# Altium footprint library CPU_Memory.PcbLib: 7 footprints
Each footprint in its own frame and in the unit in brackets; x right, y up, seen from the top. Pads: shape width x height; smd on the part's side, far side on the other; paste and mask are expansions set on the pad; w line width, h text height; cw(c..) or ccw(c..) is an arc to the next point about the centre after c.
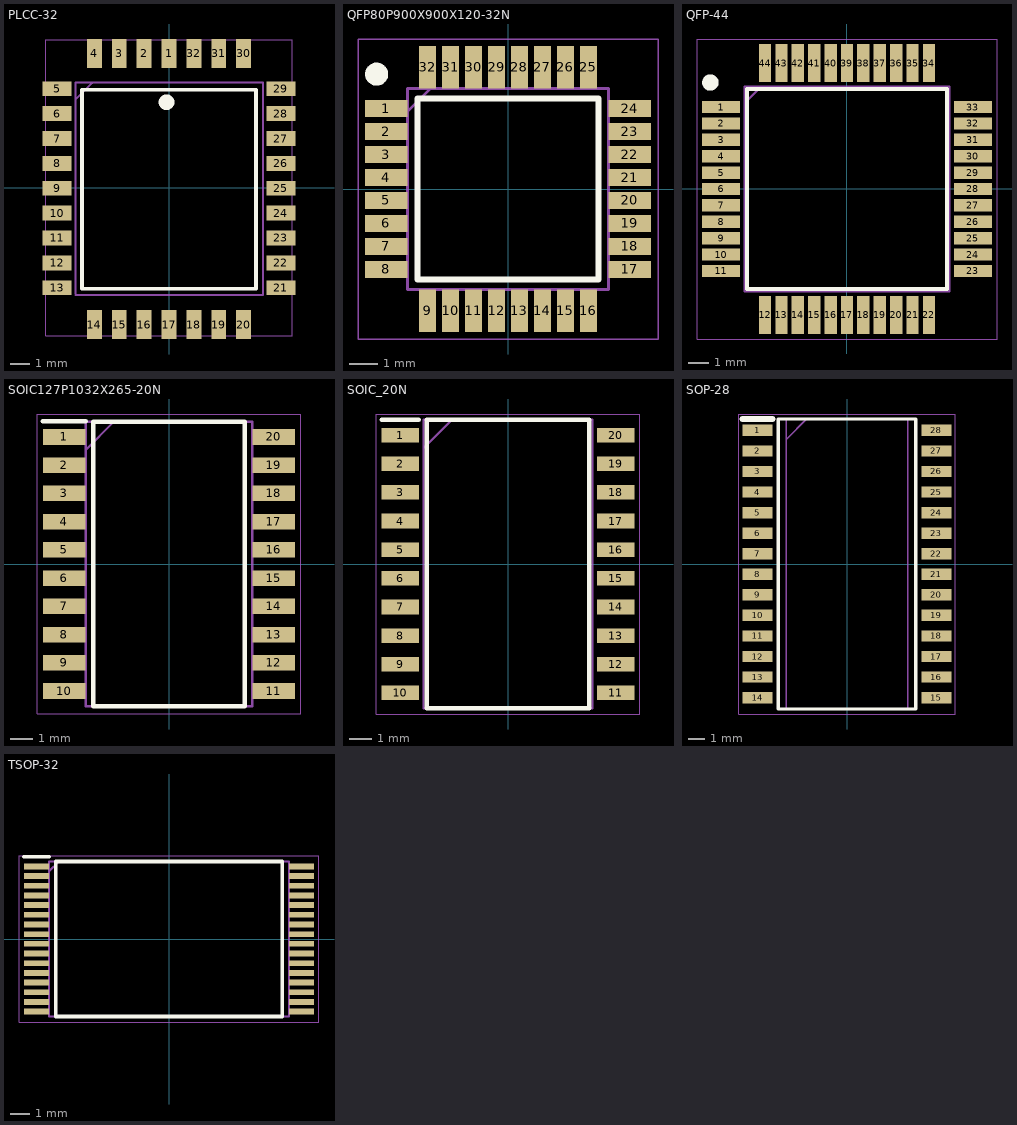
[diagram p0: the footprints below, top view; thin cyan lines are the x and y axes]

## PLCC-32 [mil]
pads (32):
  rect 30x58.07 smd: 1(0,270) 2(-50,270) 3(-100,270) 4(-150,270) 14(-150,-275) 15(-100,-275) 16(-50,-275) 17(0,-275) 18(50,-275) 19(100,-275) 20(150,-275) 30(150,270) 31(100,270) 32(50,270)
  rect 58.07x30 smd: 5(-225,199) 6(-225,149) 7(-225,99) 8(-225,49) 9(-225,-1) 10(-225,-51) 11(-225,-101) 12(-225,-151) 13(-225,-201) 21(225,-201) 22(225,-151) 23(225,-101) 24(225,-51) 25(225,-1) 26(225,49) 27(225,99) 28(225,149) 29(225,199)
Top Overlay:
  circle w15.75: c-5,172 r7.87
  lines w7.87: -175,-203 -175,197 175,197 175,-203 -175,-203
Mechanical 13:
  lines w3.94: -188,-216 187,-216 ; -188,-213 -188,212 189,212 189,-216 ; -188,177 -154,211
Mechanical 15:
  lines w1: -247.5,-297.5 247.5,-297.5 247.5,297.5 -247.5,297.5 -247.5,-297.5
3D body "SST39SF040-55-4C-NHE-T.stp": height 140, standoff 0.07, extent -245,-296 245,294

## QFP80P900X900X120-32N [mm]
pads (32):
  rect 1.475x0.6 smd: 1(-4.238,2.8) 2(-4.238,2) 3(-4.238,1.2) 4(-4.238,0.4) 5(-4.238,-0.4) 6(-4.238,-1.2) 7(-4.238,-2) 8(-4.238,-2.8) 17(4.238,-2.8) 18(4.238,-2) 19(4.238,-1.2) 20(4.238,-0.4) 21(4.238,0.4) 22(4.238,1.2) 23(4.238,2) 24(4.238,2.8)
  rect 0.6x1.475 smd: 9(-2.8,-4.238) 10(-2,-4.238) 11(-1.2,-4.238) 12(-0.4,-4.238) 13(0.4,-4.238) 14(1.2,-4.238) 15(2,-4.238) 16(2.8,-4.238) 25(2.8,4.238) 26(2,4.238) 27(1.2,4.238) 28(0.4,4.238) 29(-0.4,4.238) 30(-1.2,4.238) 31(-2,4.238) 32(-2.8,4.238)
Top Overlay:
  circle w0.4: c-4.575,4 r0.2
  lines w0.2: -3.15,-3.15 -3.15,3.15 3.15,3.15 3.15,-3.15 -3.15,-3.15
Mechanical 13:
  lines w0.1: -3.5,2.7 -2.7,3.5 ; -3.5,-3.5 -3.5,3.5 3.5,3.5 3.5,-3.5 -3.5,-3.5
Mechanical 15:
  lines w0.05: -5.225,-5.225 -5.225,5.225 5.225,5.225 5.225,-5.225 -5.225,-5.225
3D body "AVR64DD32-I_PT___MULTI-VOLTAGE_I_O.stp": height 1.2, standoff 0, extent -4.5,-4.5 4.5,4.5
3D body "AVR64DD32-I_PT___MULTI-VOLTAGE_I_O.stp": height 1.2, standoff 0, extent -4.5,-4.5 4.5,4.5

## QFP-44 [mm]
pads (44):
  rect 1.85x0.6 smd: 1(-6.15,4) 2(-6.15,3.2) 3(-6.15,2.4) 4(-6.15,1.6) 5(-6.15,0.8) 6(-6.15,0) 7(-6.15,-0.8) 8(-6.15,-1.6) 9(-6.15,-2.4) 10(-6.15,-3.2) 11(-6.15,-4) 23(6.15,-4) 24(6.15,-3.2) 25(6.15,-2.4) 26(6.15,-1.6) 27(6.15,-0.8) 28(6.15,0) 29(6.15,0.8) 30(6.15,1.6) 31(6.15,2.4) 32(6.15,3.2) 33(6.15,4)
  rect 0.6x1.85 smd: 12(-4,-6.15) 13(-3.2,-6.15) 14(-2.4,-6.15) 15(-1.6,-6.15) 16(-0.8,-6.15) 17(0,-6.15) 18(0.8,-6.15) 19(1.6,-6.15) 20(2.4,-6.15) 21(3.2,-6.15) 22(4,-6.15) 34(4,6.15) 35(3.2,6.15) 36(2.4,6.15) 37(1.6,6.15) 38(0.8,6.15) 39(0,6.15) 40(-0.8,6.15) 41(-1.6,6.15) 42(-2.4,6.15) 43(-3.2,6.15) 44(-4,6.15)
Top Overlay:
  circle w0.4: c-6.675,5.2 r0.2
  lines w0.2: -4.875,-4.875 4.875,-4.875 4.875,4.875 -4.875,4.875 -4.875,-4.875
Mechanical 15:
  lines w0.1: -5,4.2 -4.2,5 ; -5,-5 5,-5 5,5 -5,5 -5,-5
Mechanical 20:
  lines w0.05: -7.325,-7.325 7.325,-7.325 7.325,7.325 -7.325,7.325 -7.325,-7.325
3D body "W65C02S6TQG-14.stp": height 2.7, standoff 0, extent -6.6,-6.6 6.6,6.6

## SOIC127P1032X265-20N [mm]
pads (20):
  rect 1.925x0.7 smd: 1(-4.712,5.715) 2(-4.712,4.445) 3(-4.712,3.175) 4(-4.712,1.905) 5(-4.712,0.635) 6(-4.712,-0.635) 7(-4.712,-1.905) 8(-4.712,-3.175) 9(-4.712,-4.445) 10(-4.712,-5.715) 11(4.712,-5.715) 12(4.712,-4.445) 13(4.712,-3.175) 14(4.712,-1.905) 15(4.712,-0.635) 16(4.712,0.635) 17(4.712,1.905) 18(4.712,3.175) 19(4.712,4.445) 20(4.712,5.715)
Top Overlay:
  lines w0.2: -5.675,6.415 -3.75,6.415 ; -3.4,-6.4 -3.4,6.4 3.4,6.4 3.4,-6.4 -3.4,-6.4
Mechanical 15:
  lines w0.1: -3.75,5.13 -2.48,6.4 ; -3.75,-6.4 -3.75,6.4 3.75,6.4 3.75,-6.4 -3.75,-6.4
Mechanical 20:
  lines w0.05: -5.925,-6.75 -5.925,6.75 5.925,6.75 5.925,-6.75 -5.925,-6.75
3D body "ATTINY2313A-SU.stp": height 2.65, standoff 0, extent -5.162,-6.4 5.162,6.4

## SOIC_20N [mm]
pads (20):
  rect 1.65x0.65 smd: 1(-4.775,5.715) 2(-4.775,4.445) 3(-4.775,3.175) 4(-4.775,1.905) 5(-4.775,0.635) 6(-4.775,-0.635) 7(-4.775,-1.905) 8(-4.775,-3.175) 9(-4.775,-4.445) 10(-4.775,-5.715) 11(4.775,-5.715) 12(4.775,-4.445) 13(4.775,-3.175) 14(4.775,-1.905) 15(4.775,-0.635) 16(4.775,0.635) 17(4.775,1.905) 18(4.775,3.175) 19(4.775,4.445) 20(4.775,5.715)
Top Overlay:
  lines w0.2: -5.6,6.39 -3.95,6.39 ; -3.6,-6.4 -3.6,6.4 3.6,6.4 3.6,-6.4 -3.6,-6.4
Mechanical 15:
  lines w0.1: -3.75,5.13 -2.48,6.4 ; -3.75,-6.4 -3.75,6.4 3.75,6.4 3.75,-6.4 -3.75,-6.4
Mechanical 20:
  lines w0.05: -5.85,-6.65 -5.85,6.65 5.85,6.65 5.85,-6.65 -5.85,-6.65
3D body "ATTINY826-SFR.stp": height 2.65, standoff 0, extent -5.15,-6.4 5.15,6.4

## SOP-28 [mm]
pads (28):
  rect 1.85x0.7 smd: 1(-5.525,8.255) 2(-5.525,6.985) 3(-5.525,5.715) 4(-5.525,4.445) 5(-5.525,3.175) 6(-5.525,1.905) 7(-5.525,0.635) 8(-5.525,-0.635) 9(-5.525,-1.905) 10(-5.525,-3.175) 11(-5.525,-4.445) 12(-5.525,-5.715) 13(-5.525,-6.985) 14(-5.525,-8.255) 15(5.525,-8.255) 16(5.525,-6.985) 17(5.525,-5.715) 18(5.525,-4.445) 19(5.525,-3.175) 20(5.525,-1.905) 21(5.525,-0.635) 22(5.525,0.635) 23(5.525,1.905) 24(5.525,3.175) 25(5.525,4.445) 26(5.525,5.715) 27(5.525,6.985) 28(5.525,8.255)
Top Overlay:
  lines w0.2: -4.25,-8.966 -4.25,8.966 4.25,8.966 4.25,-8.966 -4.25,-8.966
  lines w0.381: -6.45,8.955 -5.988,8.955 -5.063,8.955 -4.6,8.955
Mechanical 15:
  lines w0.1: -3.753,7.696 -2.483,8.966 ; -3.753,-8.966 -3.753,8.966 3.753,8.966 3.753,-8.966 -3.753,-8.966
Mechanical 20:
  lines w0.05: -6.7,-9.267 -6.7,9.267 6.7,9.267 6.7,-9.267 -6.7,-9.267
3D body "CY62256NLL-55SNXI.stp": height 2.79, standoff 0, extent -5.969,-9.093 5.969,8.839

## TSOP-32 [mm]
pads (32):
  rect 1.3x0.3 smd: 1(-6.85,3.75) 2(-6.85,3.25) 3(-6.85,2.75) 4(-6.85,2.25) 5(-6.85,1.75) 6(-6.85,1.25) 7(-6.85,0.75) 8(-6.85,0.25) 9(-6.85,-0.25) 10(-6.85,-0.75) 11(-6.85,-1.25) 12(-6.85,-1.75) 13(-6.85,-2.25) 14(-6.85,-2.75) 15(-6.85,-3.25) 16(-6.85,-3.75) 17(6.85,-3.75) 18(6.85,-3.25) 19(6.85,-2.75) 20(6.85,-2.25) 21(6.85,-1.75) 22(6.85,-1.25) 23(6.85,-0.75) 24(6.85,-0.25) 25(6.85,0.25) 26(6.85,0.75) 27(6.85,1.25) 28(6.85,1.75) 29(6.85,2.25) 30(6.85,2.75) 31(6.85,3.25) 32(6.85,3.75)
Top Overlay:
  lines w0.2: -7.5,4.25 -6.2,4.25 ; -5.85,-4 5.85,-4 5.85,4 -5.85,4 -5.85,-4
Mechanical 15:
  lines w0.1: -6.2,3.5 -5.7,4 ; -6.2,-4 6.2,-4 6.2,4 -6.2,4 -6.2,-4
Mechanical 20:
  lines w0.05: -7.75,-4.3 7.75,-4.3 7.75,4.3 -7.75,4.3 -7.75,-4.3
3D body "SST39SF040-55-4C-WHE-T.stp": height 1.05, standoff 0, extent -7,-4 7,4